# EAGLE library part THS4503 (library analog)
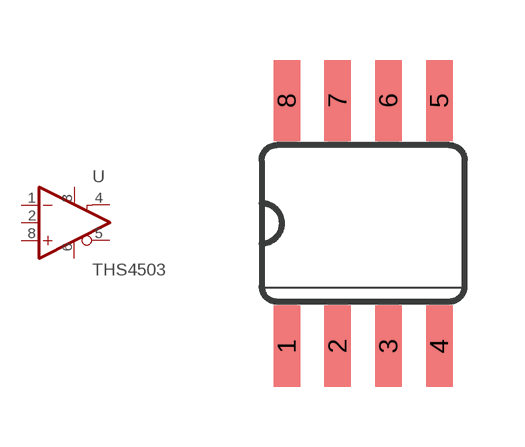
[diagram p3: symbol with the pads of SOIC08; footprint SOIC08]

Designator prefix -

## THS4503  [SOIC08]
1  -IN  in
2  CM  in
3  VDD  pwr
4  OUT+  out
5  OUT-  out
6  VSS  pwr
8  +IN  in

## Footprint SOIC08 (pad centres in mm)
Small Outline Package
smd 0.66 x 2.032: 1 -1.905,-3.073; 2 -0.635,-3.073; 3 0.635,-3.073; 4 1.905,-3.073; 5 1.905,3.073; 6 0.635,3.073; 7 -0.635,3.073; 8 -1.905,3.073